# Altium schematic symbol library VBlib_Modules.SchLib: 4 symbols
Pins are listed as number, name and electrical type; pins without a type are passive.

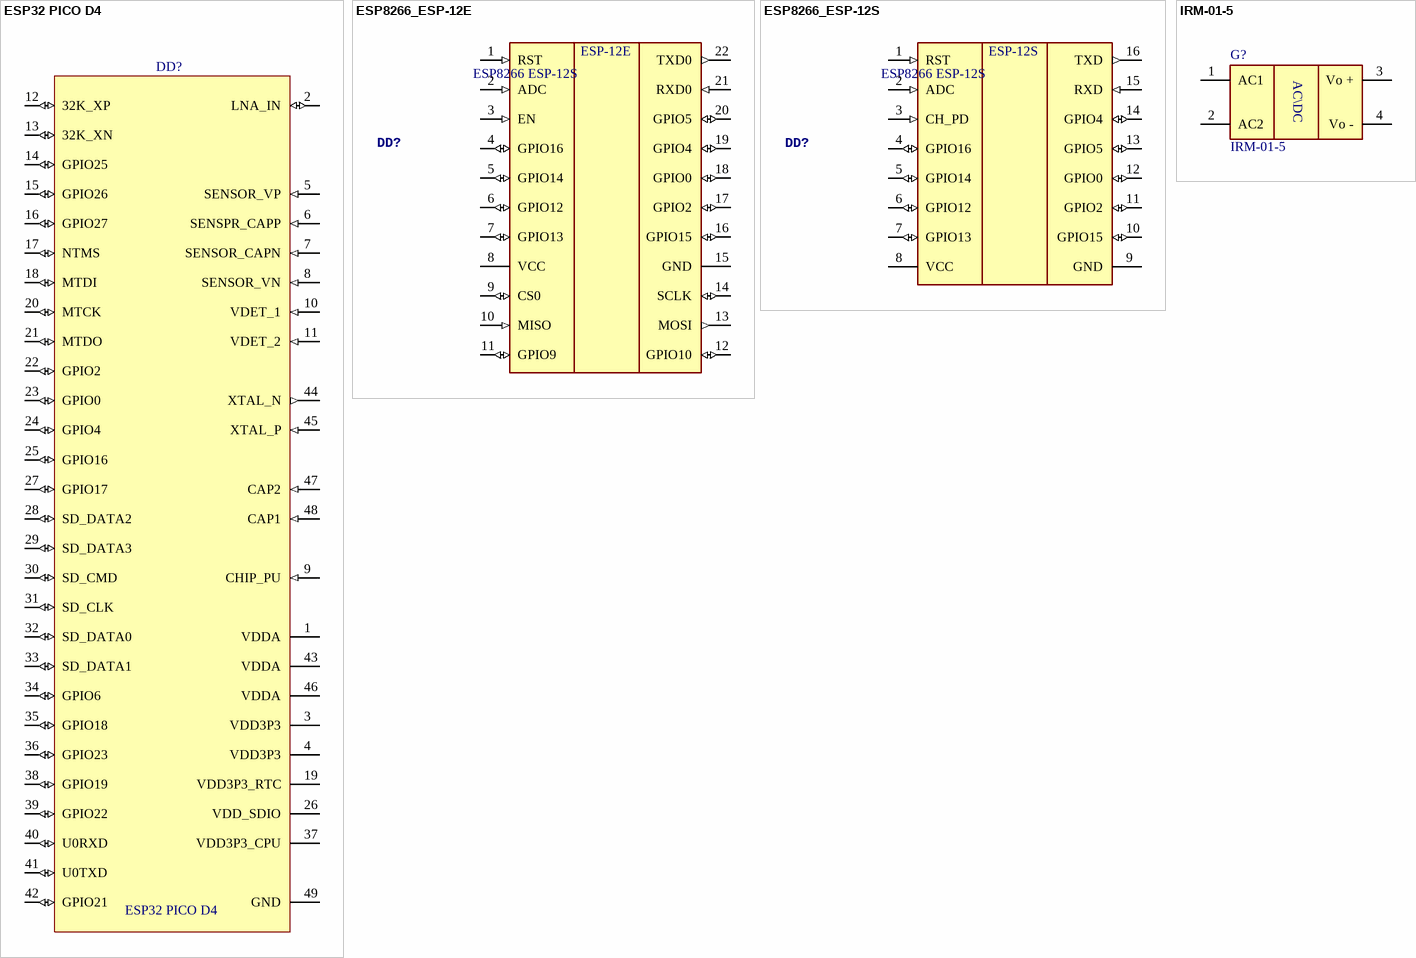
[diagram p0: symbols ESP32 PICO D4 to IRM-01-5]

## ESP32 PICO D4
designator DD?
WiFi module, core processor ESP8266
pins: 1 VDDA (power), 2 LNA_IN (io), 3 VDD3P3 (power), 4 VDD3P3 (power), 5 SENSOR_VP (in), 6 SENSPR_CAPP (in), 7 SENSOR_CAPN (in), 8 SENSOR_VN (in), 9 CHIP_PU (in), 10 VDET_1 (in), 11 VDET_2 (in), 12 32K_XP (io), 13 32K_XN (io), 14 GPIO25 (io), 15 GPIO26 (io), 16 GPIO27 (io), 17 NTMS (io), 18 MTDI (io), 19 VDD3P3_RTC (power), 20 MTCK (io), 21 MTDO (io), 22 GPIO2 (io), 23 GPIO0 (io), 24 GPIO4 (io), 25 GPIO16 (io), 26 VDD_SDIO (power), 27 GPIO17 (io), 28 SD_DATA2 (io), 29 SD_DATA3 (io), 30 SD_CMD (io), 31 SD_CLK (io), 32 SD_DATA0 (io), 33 SD_DATA1 (io), 34 GPIO6 (io), 35 GPIO18 (io), 36 GPIO23 (io), 37 VDD3P3_CPU (power), 38 GPIO19 (io), 39 GPIO22 (io), 40 U0RXD (io), 41 U0TXD (io), 42 GPIO21 (io), 43 VDDA (power), 44 XTAL_N (out), 45 XTAL_P (in), 46 VDDA (power), 47 CAP2 (in), 48 CAP1 (in), 49 GND (power)

## ESP8266_ESP-12E
designator DD?, comment ESP8266 ESP-12S
WiFi module, core processor ESP8266 (AI-Thinker Co.,Ltd)
pins: 1 RST (in), 2 ADC (in), 3 EN (in) "CH_PD", 4 GPIO16 (io), 5 GPIO14 (io), 6 GPIO12 (io), 7 GPIO13 (io), 8 VCC (power), 9 CS0 (io) "GPIO13", 10 MISO (in) "GPIO13", 11 GPIO9 (io) "GPIO13", 12 GPIO10 (io) "GPIO5", 13 MOSI (out) "GPIO13", 14 SCLK (io) "GPIO13", 15 GND (power), 16 GPIO15 (io), 17 GPIO2 (io), 18 GPIO0 (io), 19 GPIO4 (io), 20 GPIO5 (io), 21 RXD0 (in) "RXD", 22 TXD0 (out) "TXD"
text: ESP-12E

## ESP8266_ESP-12S
designator DD?, comment ESP8266 ESP-12S
WiFi module, core processor ESP8266 (AI-Thinker Co.,Ltd)
footprint ESP8266-ESP12
pins: 1 RST (in), 2 ADC (in), 3 CH_PD (in), 4 GPIO16 (io), 5 GPIO14 (io), 6 GPIO12 (io), 7 GPIO13 (io), 8 VCC (power), 9 GND (power), 10 GPIO15 (io), 11 GPIO2 (io), 12 GPIO0 (io), 13 GPIO5 (io), 14 GPIO4 (io), 15 RXD (in), 16 TXD (out)
text: ESP-12S

## IRM-01-5
designator G?
MODULE, AC-DC, 85-305VAC -> 5VDC, 200mA, 1W (MeanWell)
footprint IRM-01 Series (AC\DC Converter IRM-01 series MeanWell)
pins: 1 AC1, 2 AC2, 3 Vo +, 4 Vo -
text: AC\DC